# EAGLE library part C1000 (library IC & Transistor)
Intel Quark SE Microcontroller C1000
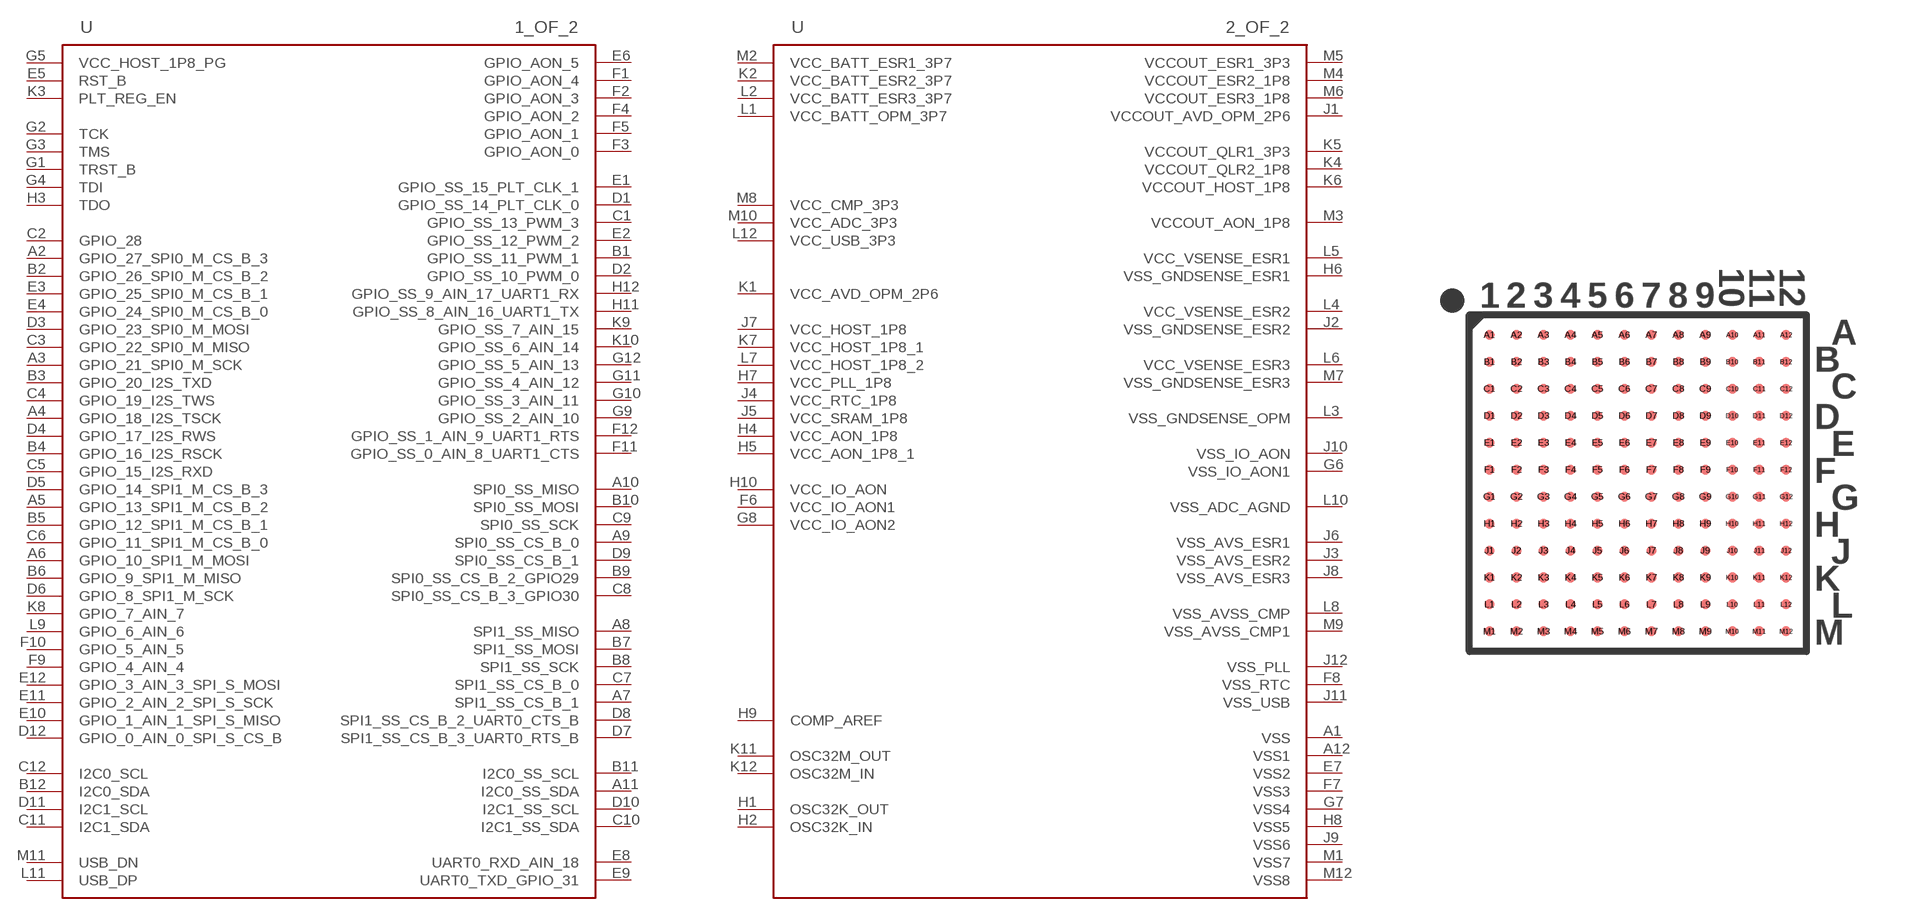
[diagram p78: symbol with the pads of VFBGA-144; footprint VFBGA-144]

Designator prefix U; gates 1_OF_2=C1000-U1-1 2_OF_2=C1000-U2-1

## C1000 (CYTRON-PC: S-IC-C1000; DESC: Intel Quark SE Microcontroller C1000; MF: Intel Corporation; MPN: C1000)  [VFBGA-144]
A1  2_OF_2:VSS
A2  1_OF_2:GPIO_27_SPI0_M_CS_B_3
A3  1_OF_2:GPIO_21_SPI0_M_SCK
A4  1_OF_2:GPIO_18_I2S_TSCK
A5  1_OF_2:GPIO_13_SPI1_M_CS_B_2
A6  1_OF_2:GPIO_10_SPI1_M_MOSI
A7  1_OF_2:SPI1_SS_CS_B_1
A8  1_OF_2:SPI1_SS_MISO
A9  1_OF_2:SPI0_SS_CS_B_0
A10  1_OF_2:SPI0_SS_MISO
A11  1_OF_2:I2C0_SS_SDA
A12  2_OF_2:VSS1
B1  1_OF_2:GPIO_SS_11_PWM_1
B2  1_OF_2:GPIO_26_SPI0_M_CS_B_2
B3  1_OF_2:GPIO_20_I2S_TXD
B4  1_OF_2:GPIO_16_I2S_RSCK
B5  1_OF_2:GPIO_12_SPI1_M_CS_B_1
B6  1_OF_2:GPIO_9_SPI1_M_MISO
B7  1_OF_2:SPI1_SS_MOSI
B8  1_OF_2:SPI1_SS_SCK
B9  1_OF_2:SPI0_SS_CS_B_2_GPIO29
B10  1_OF_2:SPI0_SS_MOSI
B11  1_OF_2:I2C0_SS_SCL
B12  1_OF_2:I2C0_SDA
C1  1_OF_2:GPIO_SS_13_PWM_3
C2  1_OF_2:GPIO_28
C3  1_OF_2:GPIO_22_SPI0_M_MISO
C4  1_OF_2:GPIO_19_I2S_TWS
C5  1_OF_2:GPIO_15_I2S_RXD
C6  1_OF_2:GPIO_11_SPI1_M_CS_B_0
C7  1_OF_2:SPI1_SS_CS_B_0
C8  1_OF_2:SPI0_SS_CS_B_3_GPIO30
C9  1_OF_2:SPI0_SS_SCK
C10  1_OF_2:I2C1_SS_SDA
C11  1_OF_2:I2C1_SDA
C12  1_OF_2:I2C0_SCL
D1  1_OF_2:GPIO_SS_14_PLT_CLK_0
D2  1_OF_2:GPIO_SS_10_PWM_0
D3  1_OF_2:GPIO_23_SPI0_M_MOSI
D4  1_OF_2:GPIO_17_I2S_RWS
D5  1_OF_2:GPIO_14_SPI1_M_CS_B_3
D6  1_OF_2:GPIO_8_SPI1_M_SCK
D7  1_OF_2:SPI1_SS_CS_B_3_UART0_RTS_B
D8  1_OF_2:SPI1_SS_CS_B_2_UART0_CTS_B
D9  1_OF_2:SPI0_SS_CS_B_1
D10  1_OF_2:I2C1_SS_SCL
D11  1_OF_2:I2C1_SCL
D12  1_OF_2:GPIO_0_AIN_0_SPI_S_CS_B
E1  1_OF_2:GPIO_SS_15_PLT_CLK_1
E2  1_OF_2:GPIO_SS_12_PWM_2
E3  1_OF_2:GPIO_25_SPI0_M_CS_B_1
E4  1_OF_2:GPIO_24_SPI0_M_CS_B_0
E5  1_OF_2:RST_B
E6  1_OF_2:GPIO_AON_5
E7  2_OF_2:VSS2
E8  1_OF_2:UART0_RXD_AIN_18
E9  1_OF_2:UART0_TXD_GPIO_31
E10  1_OF_2:GPIO_1_AIN_1_SPI_S_MISO
E11  1_OF_2:GPIO_2_AIN_2_SPI_S_SCK
E12  1_OF_2:GPIO_3_AIN_3_SPI_S_MOSI
F1  1_OF_2:GPIO_AON_4
F2  1_OF_2:GPIO_AON_3
F3  1_OF_2:GPIO_AON_0
F4  1_OF_2:GPIO_AON_2
F5  1_OF_2:GPIO_AON_1
F6  2_OF_2:VCC_IO_AON1
F7  2_OF_2:VSS3
F8  2_OF_2:VSS_RTC
F9  1_OF_2:GPIO_4_AIN_4
F10  1_OF_2:GPIO_5_AIN_5
F11  1_OF_2:GPIO_SS_0_AIN_8_UART1_CTS
F12  1_OF_2:GPIO_SS_1_AIN_9_UART1_RTS
G1  1_OF_2:TRST_B
G2  1_OF_2:TCK
G3  1_OF_2:TMS
G4  1_OF_2:TDI
G5  1_OF_2:VCC_HOST_1P8_PG
G6  2_OF_2:VSS_IO_AON1
G7  2_OF_2:VSS4
G8  2_OF_2:VCC_IO_AON2
G9  1_OF_2:GPIO_SS_2_AIN_10
G10  1_OF_2:GPIO_SS_3_AIN_11
G11  1_OF_2:GPIO_SS_4_AIN_12
G12  1_OF_2:GPIO_SS_5_AIN_13
H1  2_OF_2:OSC32K_OUT
H2  2_OF_2:OSC32K_IN
H3  1_OF_2:TDO
H4  2_OF_2:VCC_AON_1P8
H5  2_OF_2:VCC_AON_1P8_1
H6  2_OF_2:VSS_GNDSENSE_ESR1
H7  2_OF_2:VCC_PLL_1P8
H8  2_OF_2:VSS5
H9  2_OF_2:COMP_AREF
H10  2_OF_2:VCC_IO_AON
H11  1_OF_2:GPIO_SS_8_AIN_16_UART1_TX
H12  1_OF_2:GPIO_SS_9_AIN_17_UART1_RX
J1  2_OF_2:VCCOUT_AVD_OPM_2P6
J2  2_OF_2:VSS_GNDSENSE_ESR2
J3  2_OF_2:VSS_AVS_ESR2
J4  2_OF_2:VCC_RTC_1P8
J5  2_OF_2:VCC_SRAM_1P8
J6  2_OF_2:VSS_AVS_ESR1
J7  2_OF_2:VCC_HOST_1P8
J8  2_OF_2:VSS_AVS_ESR3
J9  2_OF_2:VSS6
J10  2_OF_2:VSS_IO_AON
J11  2_OF_2:VSS_USB
J12  2_OF_2:VSS_PLL
K1  2_OF_2:VCC_AVD_OPM_2P6
K2  2_OF_2:VCC_BATT_ESR2_3P7
K3  1_OF_2:PLT_REG_EN
K4  2_OF_2:VCCOUT_QLR2_1P8
K5  2_OF_2:VCCOUT_QLR1_3P3
K6  2_OF_2:VCCOUT_HOST_1P8
K7  2_OF_2:VCC_HOST_1P8_1
K8  1_OF_2:GPIO_7_AIN_7
K9  1_OF_2:GPIO_SS_7_AIN_15
K10  1_OF_2:GPIO_SS_6_AIN_14
K11  2_OF_2:OSC32M_OUT
K12  2_OF_2:OSC32M_IN
L1  2_OF_2:VCC_BATT_OPM_3P7
L2  2_OF_2:VCC_BATT_ESR3_3P7
L3  2_OF_2:VSS_GNDSENSE_OPM
L4  2_OF_2:VCC_VSENSE_ESR2
L5  2_OF_2:VCC_VSENSE_ESR1
L6  2_OF_2:VCC_VSENSE_ESR3
L7  2_OF_2:VCC_HOST_1P8_2
L8  2_OF_2:VSS_AVSS_CMP
L9  1_OF_2:GPIO_6_AIN_6
L10  2_OF_2:VSS_ADC_AGND
L11  1_OF_2:USB_DP
L12  2_OF_2:VCC_USB_3P3
M1  2_OF_2:VSS7
M2  2_OF_2:VCC_BATT_ESR1_3P7
M3  2_OF_2:VCCOUT_AON_1P8
M4  2_OF_2:VCCOUT_ESR2_1P8
M5  2_OF_2:VCCOUT_ESR1_3P3
M6  2_OF_2:VCCOUT_ESR3_1P8
M7  2_OF_2:VSS_GNDSENSE_ESR3
M8  2_OF_2:VCC_CMP_3P3
M9  2_OF_2:VSS_AVSS_CMP1
M10  2_OF_2:VCC_ADC_3P3
M11  1_OF_2:USB_DN
M12  2_OF_2:VSS8

## Footprint VFBGA-144 (pad centres in mm)
smd 0.3 x 0.3: A1 0.6,9.4; A2 1.4,9.4; A3 2.2,9.4; A4 3,9.4; A5 3.8,9.4; A6 4.6,9.4; A7 5.4,9.4; A8 6.2,9.4; A9 7,9.4; A10 7.8,9.4; A11 8.6,9.4; A12 9.4,9.4; B1 0.6,8.6; B2 1.4,8.6; B3 2.2,8.6; B4 3,8.6; B5 3.8,8.6; B6 4.6,8.6; B7 5.4,8.6; B8 6.2,8.6; B9 7,8.6; B10 7.8,8.6; B11 8.6,8.6; B12 9.4,8.6; C1 0.6,7.8; C2 1.4,7.8; C3 2.2,7.8; C4 3,7.8; C5 3.8,7.8; C6 4.6,7.8; C7 5.4,7.8; C8 6.2,7.8; C9 7,7.8; C10 7.8,7.8; C11 8.6,7.8; C12 9.4,7.8; D1 0.6,7; D2 1.4,7; D3 2.2,7; D4 3,7; D5 3.8,7; D6 4.6,7; D7 5.4,7; D8 6.2,7; D9 7,7; D10 7.8,7; D11 8.6,7; D12 9.4,7; E1 0.6,6.2; E2 1.4,6.2; E3 2.2,6.2; E4 3,6.2; E5 3.8,6.2; E6 4.6,6.2; E7 5.4,6.2; E8 6.2,6.2; E9 7,6.2; E10 7.8,6.2; E11 8.6,6.2; E12 9.4,6.2; F1 0.6,5.4; F2 1.4,5.4; F3 2.2,5.4; F4 3,5.4; F5 3.8,5.4; F6 4.6,5.4; F7 5.4,5.4; F8 6.2,5.4; F9 7,5.4; F10 7.8,5.4; F11 8.6,5.4; F12 9.4,5.4; G1 0.6,4.6; G2 1.4,4.6; G3 2.2,4.6; G4 3,4.6; G5 3.8,4.6; G6 4.6,4.6; G7 5.4,4.6; G8 6.2,4.6; G9 7,4.6; G10 7.8,4.6; G11 8.6,4.6; G12 9.4,4.6; H1 0.6,3.8; H2 1.4,3.8; H3 2.2,3.8; H4 3,3.8; H5 3.8,3.8; H6 4.6,3.8; H7 5.4,3.8; H8 6.2,3.8; H9 7,3.8; H10 7.8,3.8; H11 8.6,3.8; H12 9.4,3.8; J1 0.6,3; J2 1.4,3; J3 2.2,3; J4 3,3; J5 3.8,3; J6 4.6,3; J7 5.4,3; J8 6.2,3; J9 7,3; J10 7.8,3; J11 8.6,3; J12 9.4,3; K1 0.6,2.2; K2 1.4,2.2; K3 2.2,2.2; K4 3,2.2; K5 3.8,2.2; K6 4.6,2.2; K7 5.4,2.2; K8 6.2,2.2; K9 7,2.2; K10 7.8,2.2; K11 8.6,2.2; K12 9.4,2.2; L1 0.6,1.4; L2 1.4,1.4; L3 2.2,1.4; L4 3,1.4; L5 3.8,1.4; L6 4.6,1.4; L7 5.4,1.4; L8 6.2,1.4; L9 7,1.4; L10 7.8,1.4; L11 8.6,1.4; L12 9.4,1.4; M1 0.6,0.6; M2 1.4,0.6; M3 2.2,0.6; M4 3,0.6; M5 3.8,0.6; M6 4.6,0.6; M7 5.4,0.6; M8 6.2,0.6; M9 7,0.6; M10 7.8,0.6; M11 8.6,0.6; M12 9.4,0.6